# EAGLE library part IF_USB_ETH_RTL8152B-VB-CG (library !GPLIB_ACTIVE)
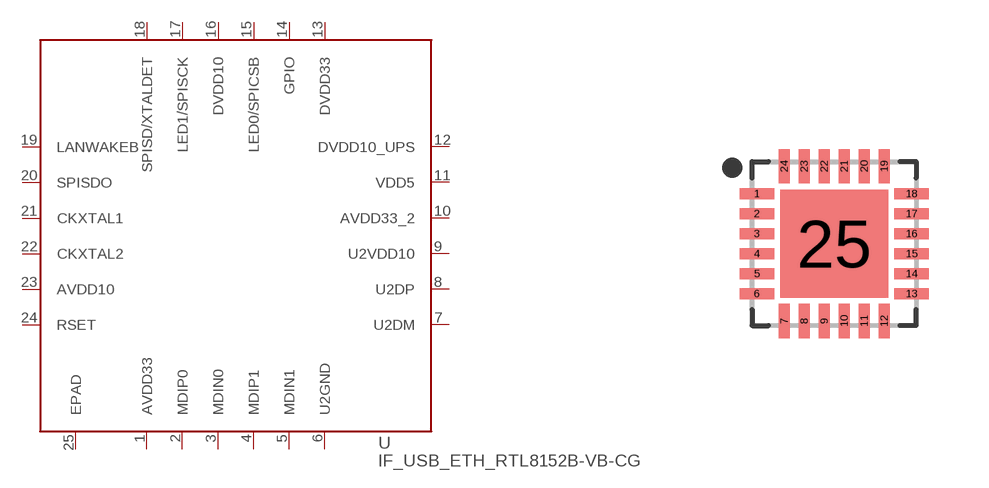
[diagram p70: symbol with the pads of RTL8152B-VB-CG; footprint RTL8152B-VB-CG]

Designator prefix -

## IF_USB_ETH_RTL8152B-VB-CG  [RTL8152B-VB-CG]
1  AVDD33
2  MDIP0
3  MDIN0
4  MDIP1
5  MDIN1
6  U2GND
7  U2DM
8  U2DP
9  U2VDD10
10  AVDD33_2
11  VDD5
12  DVDD10_UPS
13  DVDD33
14  GPIO
15  LED0/SPICSB
16  DVDD10
17  LED1/SPISCK
18  SPISD/XTALDET
19  LANWAKEB
20  SPISDO
21  CKXTAL1
22  CKXTAL2
23  AVDD10
24  RSET
25  EPAD

## Footprint RTL8152B-VB-CG (pad centres in mm)
24-QFN, 0.50 mm pitch, 4.00 X 4.00 X 0.90 mm body, 2.70 X 2.70 mm thermal pad 24-pin QFN package with 0.50 mm pitch with body size 4.00 X 4.00 X 0.90 mm and thermal pad size 2.70 X 2.70 mm
smd 0.862 x 0.274: 1 -1.935,1.25; 2 -1.935,0.75; 3 -1.935,0.25; 4 -1.935,-0.25; 5 -1.935,-0.75; 6 -1.935,-1.25; 13 1.935,-1.25; 14 1.935,-0.75; 15 1.935,-0.25; 16 1.935,0.25; 17 1.935,0.75; 18 1.935,1.25
smd 0.274 x 0.862: 7 -1.25,-1.935; 8 -0.75,-1.935; 9 -0.25,-1.935; 10 0.25,-1.935; 11 0.75,-1.935; 12 1.25,-1.935; 19 1.25,1.935; 20 0.75,1.935; 21 0.25,1.935; 22 -0.25,1.935; 23 -0.75,1.935; 24 -1.25,1.935
smd 2.7 x 2.7: 25 0,0